# Altium footprint library LvlConverter_Adg3304.PcbLib: 1 footprints
Each footprint in its own frame and in the unit in brackets; x right, y up, seen from the top. Pads: shape width x height; smd on the part's side, far side on the other; paste and mask are expansions set on the pad; w line width, h text height; cw(c..) or ccw(c..) is an arc to the next point about the centre after c.
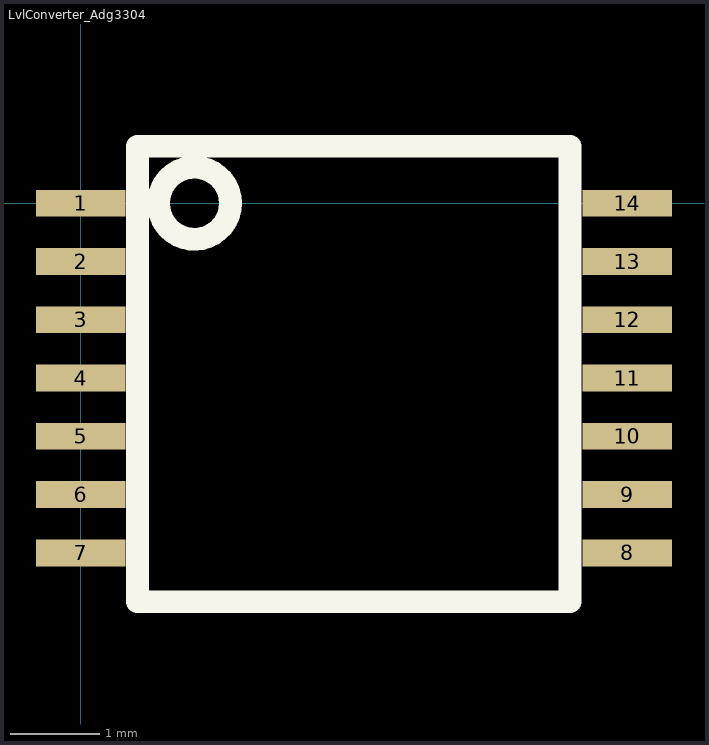
[diagram p0: the footprint, top view; thin cyan lines are the x and y axes]

## LvlConverter_Adg3304 [mm]
pads (14):
  rect 1x0.3 smd: 1(0,0) 2(0,-0.65) 3(0,-1.3) 4(0,-1.95) 5(0,-2.6) 6(0,-3.25) 7(0,-3.9) 8(6.1,-3.9) 9(6.1,-3.25) 10(6.1,-2.6) 11(6.1,-1.95) 12(6.1,-1.3) 13(6.1,-0.65) 14(6.1,0)
Top Overlay:
  circle w0.254: c1.27,0 r0.402
  lines w0.254: 0.635,-4.445 0.635,0.635 5.461,0.635 5.461,-4.445 0.635,-4.445